# EAGLE library part LTC1155 (library 000_CustomPartsMaster)
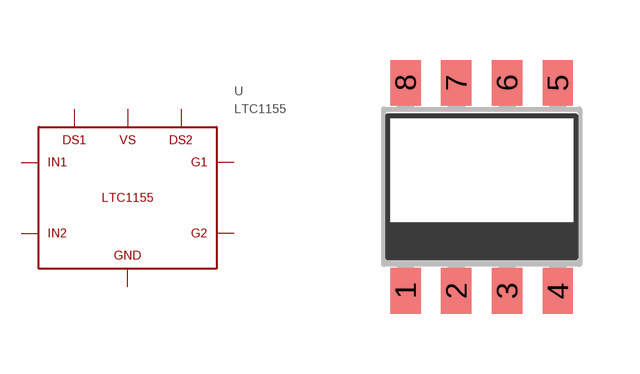
[diagram p24: symbol with the pads of S8PACKAGE; footprint S8PACKAGE]

Designator prefix -

## LTC1155  [S8PACKAGE]
1  DS1
2  G1
3  GND
4  IN1
5  IN2
6  V_S
7  G2
8  DS2

## Footprint S8PACKAGE (pad centres in mm)
smd 0.762 x 1.143: 1 -1.905,-2.603; 2 -0.635,-2.603; 3 0.635,-2.603; 4 1.905,-2.603; 5 1.905,2.603; 6 0.635,2.603; 7 -0.635,2.603; 8 -1.905,2.603